# Altium footprint library thermocouple_connector.PcbLib: 1 footprints
Each footprint in its own frame and in the unit in brackets; x right, y up, seen from the top. Pads: shape width x height; smd on the part's side, far side on the other; paste and mask are expansions set on the pad; w line width, h text height; cw(c..) or ccw(c..) is an arc to the next point about the centre after c.
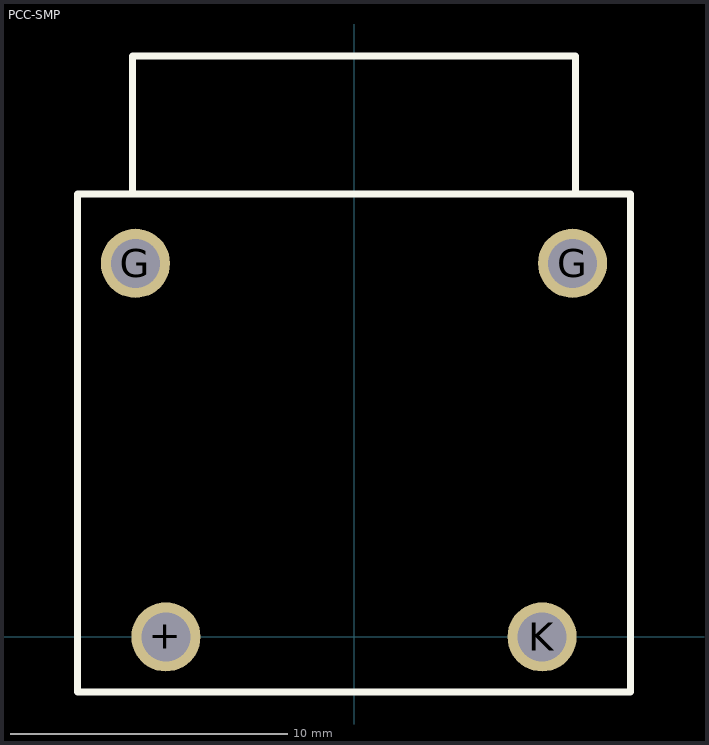
[diagram p0: the footprint, top view; thin cyan lines are the x and y axes]

## PCC-SMP [mm]
pads (4):
  round 2.5 hole 1.77: +(-6.8,0) G(-7.9,13.5) G(7.9,13.5) K(6.8,0)
Top Overlay:
  lines w0.25: -8,16 -8,21 8,21 8,16 ; -10,-2 -10,16 10,16 10,-2 -10,-2
3D body "Thermocouple-PCC-SMP.step": height 7.65, standoff -3.45, extent -7.823,-2.475 7.877,18.325